# Altium footprint library PCB1_1.PcbLib: 23 footprints (part 1 of 2)
Each footprint in its own frame and in the unit in brackets; x right, y up, seen from the top. Pads: shape width x height; smd on the part's side, far side on the other; paste and mask are expansions set on the pad; w line width, h text height; cw(c..) or ccw(c..) is an arc to the next point about the centre after c.
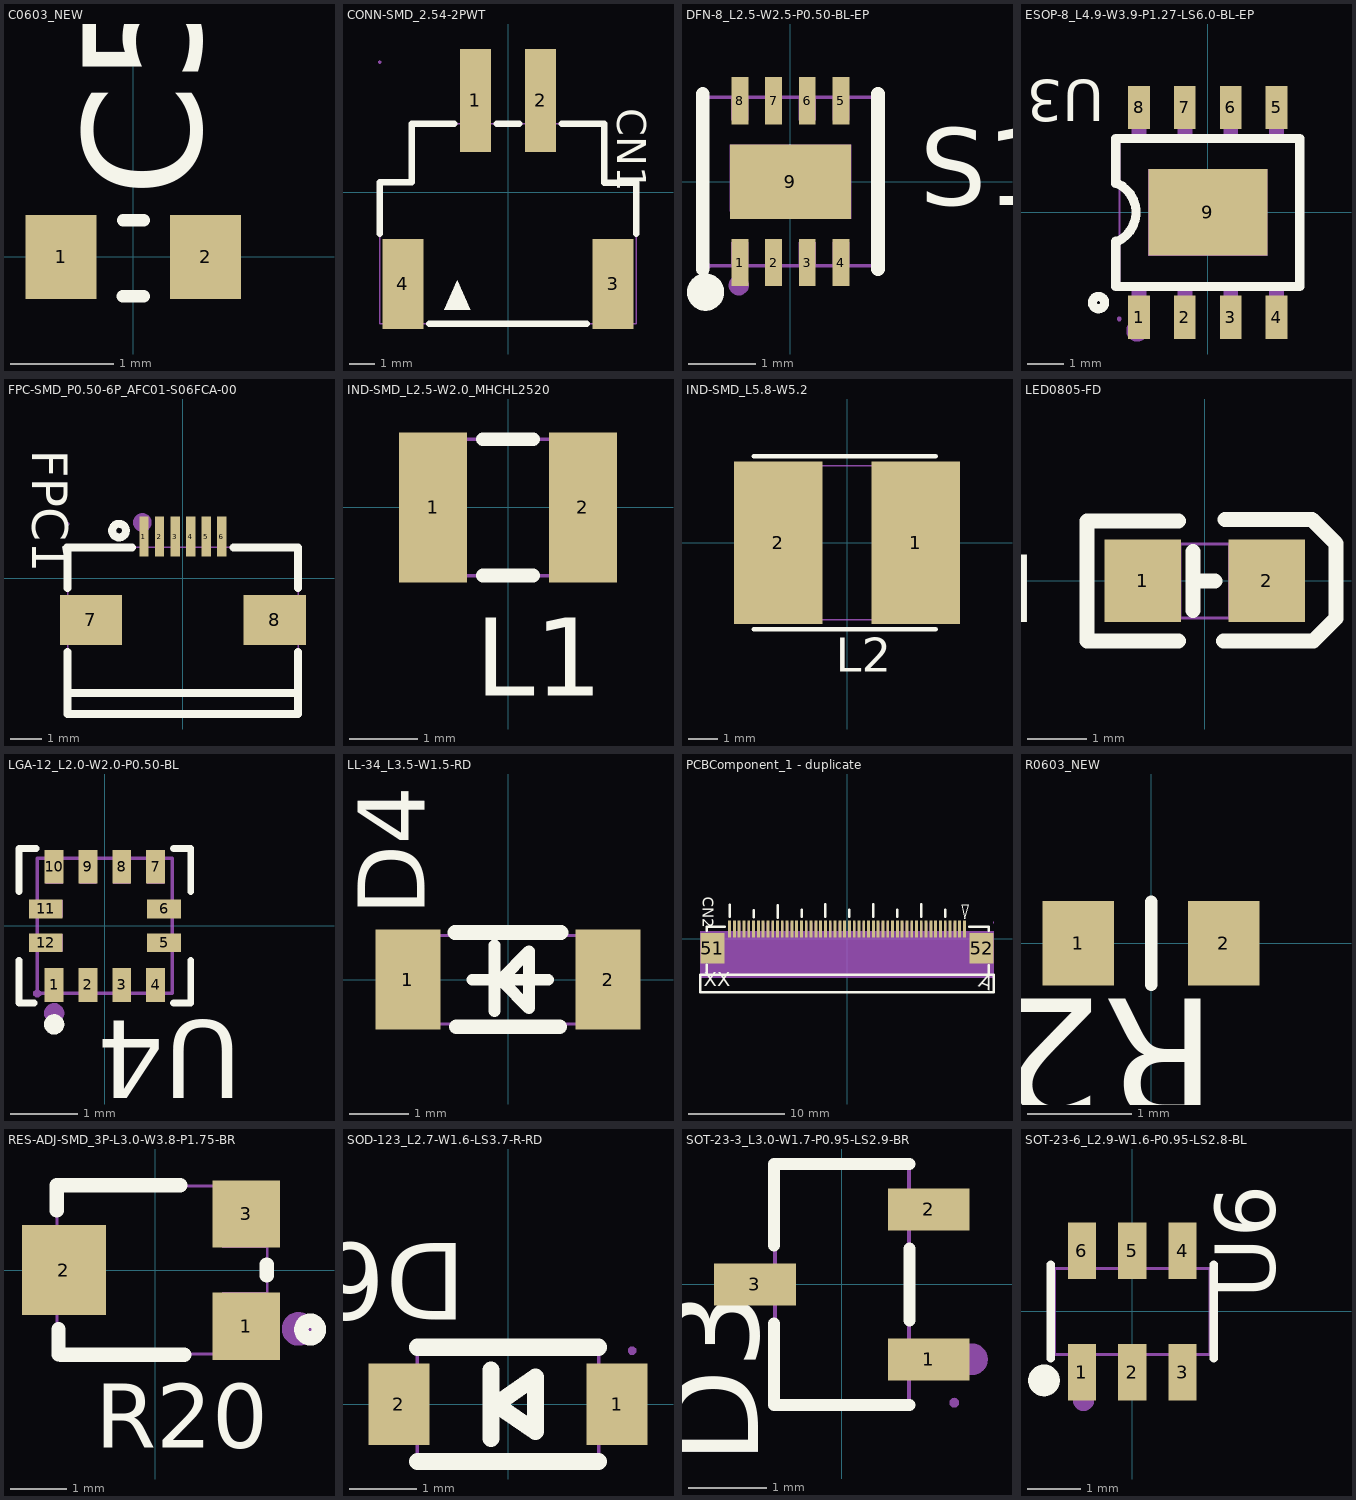
[diagram p0: the footprints below, top view; thin cyan lines are the x and y axes]

## C0603_NEW [mil]
pads (2):
  rect 27x32 smd paste+0 mask+4: 1(-27.5,0) 2(27.5,0)
Top Overlay:
  lines w4.72: -3.94,-15 3.94,-15 ; -3.94,13.94 3.94,13.94
  text "C5" at 25.67,22.74 h45

## CONN-SMD_2.54-2PWT [mm]
pads (4):
  rect 1.2x4 smd paste+0 mask+0.051: 1(-1.27,3.577) 2(1.27,3.577)
  rect 1.6x3.5 smd paste+0 mask+0.051: 3(4.1,-3.577) 4(-4.1,-3.577)
Top Overlay:
  region: -2.49,-4.577 -1.601,-4.577 -1.474,-4.577 -1.982,-3.434
  lines w0.254: -5.001,-1.619 -5.001,0.382 -3.749,0.382 -3.749,2.673 -2.101,2.673 ; -3.069,-5.127 3.069,-5.127 ; -0.439,2.673 0.439,2.673 ; 2.101,2.673 3.75,2.673 3.75,0.373 5,0.373 5,-1.619
  text "CN1" at 4.253,3.268 h1.14
Mechanical 6:
  circle w0.4: c-1.32,4.563 r0.2
Mechanical 15:
  region: -4.3,-2.723 -3.9,-2.723 -3.9,-5.123 -4.3,-5.123
  region: 3.9,-2.723 4.3,-2.723 4.3,-5.123 3.9,-5.123
  region: -1.59,5.077 -0.95,5.077 -0.95,1.648 -1.59,1.648
  region: 0.95,5.077 1.59,5.077 1.59,1.648 0.95,1.648
  region: -5,5.017 -4.976,5.018 -4.942,5.053 -4.942,5.101 -4.976,5.136 -5,5.137 -5.024,5.136 -5.058,5.101 -5.058,5.053 -5.024,5.018 -5,5.017
  lines w0.051: -5,-5.123 5,-5.123 5,0.377 3.75,0.377 3.75,2.677 -3.75,2.677 -3.75,0.377 -5,0.377 -5,-5.123

## DFN-8_L2.5-W2.5-P0.50-BL-EP [mm]
pads (9):
  rect 0.25x0.7 smd paste+0 mask+0.051: 1(-0.75,-1.2) 2(-0.25,-1.2) 3(0.25,-1.2) 4(0.75,-1.2) 5(0.75,1.2) 6(0.25,1.2) 7(-0.25,1.2) 8(-0.75,1.2)
  rect 1.8x1.1 smd paste+0 mask+0.051: 9(0,0)
Top Overlay:
  lines w0.203: -1.3,-1.3 -1.3,1.3 ; 1.3,-1.3 1.3,1.3
  lines w0.3: -1.26,-1.513 ccw(c-1.259,-1.64) -1.258,-1.513
  text "S1" at 1.923,-0.346 h1.14
Mechanical 6:
  circle w0.15: c-0.765,-1.537 r0.075
Mechanical 15:
  region: -0.875,1.263 -0.875,0.913 -0.625,0.913 -0.625,1.263
  region: -0.375,1.263 -0.375,0.913 -0.125,0.913 -0.125,1.263
  region: 0.125,1.263 0.125,0.913 0.375,0.913 0.375,1.263
  region: 0.625,1.263 0.625,0.913 0.875,0.913 0.875,1.263
  region: 0.625,-1.25 0.625,-0.9 0.875,-0.9 0.875,-1.25
  region: 0.125,-1.25 0.125,-0.9 0.375,-0.9 0.375,-1.25
  region: -0.375,-1.25 -0.375,-0.9 -0.125,-0.9 -0.125,-1.25
  region: -0.875,-1.25 -0.875,-0.9 -0.625,-0.9 -0.625,-1.25
  region: -0.9,-0.44 -0.9,0.55 0.9,0.55 0.9,-0.55 -0.79,-0.55
  region: -1.19,-1.25 -1.191,-1.226 -1.226,-1.192 -1.274,-1.192 -1.309,-1.226 -1.31,-1.25 -1.309,-1.274 -1.274,-1.308 -1.226,-1.308 -1.191,-1.274 -1.19,-1.25
  lines w0.051: -1.25,-1.25 -1.25,1.25 1.25,1.25 1.25,-1.25 -1.25,-1.25

## ESOP-8_L4.9-W3.9-P1.27-LS6.0-BL-EP [mm]
pads (9):
  rect 0.6x1.2 smd paste+0 mask+0.051: 1(-1.905,-2.908) 2(-0.635,-2.908) 3(0.635,-2.908) 4(1.905,-2.908) 5(1.905,2.908) 6(0.635,2.908) 7(-0.635,2.908) 8(-1.905,2.908)
  rect 3.3x2.4 smd paste+0 mask+0.051: 9(0,0)
Top Overlay:
  circle w0.254: c-3.03,-2.5 r0.17
  lines w0.254: -2.55,-0.8 -2.55,-2.05 2.55,-2.05 2.55,2.05 -2.55,2.05 -2.55,0.8 ; -2.5,-0.8 ccw(c-2.875,0) -2.5,0.8
  text "U3" at -2.863,3.663 h1.14
Mechanical 6:
  circle w0.3: c-1.96,-3.28 r0.15
Mechanical 15:
  region: 1.65,-1.2 -1.65,-1.2 -1.65,1.2 1.65,1.2
  region: 1.705,-2.95 1.705,-2.3 2.105,-2.3 2.105,-2.95
  region: 1.705,-2.31 1.705,-1.94 2.105,-1.94 2.105,-2.31
  region: 0.435,-2.95 0.435,-2.3 0.835,-2.3 0.835,-2.95
  region: 0.435,-2.31 0.435,-1.94 0.835,-1.94 0.835,-2.31
  region: -0.835,-2.95 -0.835,-2.3 -0.435,-2.3 -0.435,-2.95
  region: -0.835,-2.31 -0.835,-1.94 -0.435,-1.94 -0.435,-2.31
  region: -2.105,-2.95 -2.105,-2.3 -1.705,-2.3 -1.705,-2.95
  region: -2.105,-2.31 -2.105,-1.94 -1.705,-1.94 -1.705,-2.31
  region: 1.705,2.3 1.705,2.95 2.105,2.95 2.105,2.3
  region: 1.705,1.94 1.705,2.31 2.105,2.31 2.105,1.94
  region: 0.435,2.3 0.435,2.95 0.835,2.95 0.835,2.3
  region: 0.435,1.94 0.435,2.31 0.835,2.31 0.835,1.94
  region: -0.835,2.3 -0.835,2.95 -0.435,2.95 -0.435,2.3
  region: -0.835,1.94 -0.835,2.31 -0.435,2.31 -0.435,1.94
  region: -2.105,2.3 -2.105,2.95 -1.705,2.95 -1.705,2.3
  region: -2.105,1.94 -2.105,2.31 -1.705,2.31 -1.705,1.94
  region: -2.514,-2.95 -2.514,-2.975 -2.479,-3.01 -2.429,-3.01 -2.394,-2.975 -2.394,-2.95 -2.394,-2.925 -2.429,-2.89 -2.479,-2.89 -2.514,-2.925 -2.514,-2.95
  lines w0.051: -2.45,-1.95 -2.45,1.95 2.45,1.95 2.45,-1.95 -2.45,-1.95

## FPC-SMD_P0.50-6P_AFC01-S06FCA-00 [mm]
pads (8):
  rect 0.3x1.3 smd paste+0 mask+0.051: 1(-1.248,1.339) 2(-0.748,1.339) 3(-0.248,1.339) 4(0.252,1.339) 5(0.752,1.339) 6(1.252,1.339)
  rect 2x1.6 smd paste+0 mask+0.051: 7(-2.95,-1.339) 8(2.95,-1.339)
Top Overlay:
  circle w0.254: c-2.05,1.53 r0.22
  lines w0.254: -3.72,0.99 -1.629,0.99 ; -3.7,-3.682 3.7,-3.682 ; -3.7,-2.37 -3.7,-4.36 3.7,-4.36 3.7,-2.37 ; -3.7,-0.308 -3.7,0.99 ; 1.633,0.99 3.7,0.99 3.7,-0.308
  text "FPC1" at -4.839,4.131 h1.14
Mechanical 6:
  circle w0.3: c-1.3,1.79 r0.15
Mechanical 15:
  region: -3.7,1.679 -3.676,1.68 -3.642,1.715 -3.642,1.764 -3.676,1.799 -3.7,1.799 -3.725,1.798 -3.759,1.764 -3.759,1.715 -3.724,1.68 -3.7,1.679
  region: 1.352,0.939 1.152,0.939 1.152,1.739 1.352,1.739
  region: 0.852,0.939 0.652,0.939 0.652,1.739 0.852,1.739
  region: 0.352,0.939 0.152,0.939 0.152,1.739 0.352,1.739
  region: -0.148,0.939 -0.348,0.939 -0.348,1.739 -0.148,1.739
  region: -0.648,0.939 -0.848,0.939 -0.848,1.739 -0.648,1.739
  region: -1.148,0.939 -1.348,0.939 -1.348,1.739 -1.148,1.739
  region: 3.65,-0.791 3.65,-1.791 2.25,-1.791 2.25,-0.791
  region: -2.25,-0.791 -2.25,-1.791 -3.65,-1.791 -3.65,-0.791
  lines w0.051: -3.7,-4.361 -3.7,0.989 3.7,0.989 3.7,-4.361 -3.7,-4.361

## IND-SMD_L2.5-W2.0_MHCHL2520 [mm]
pads (2):
  rect 1x2.2 smd paste+0 mask+0.051: 1(-1.1,0) 2(1.1,0)
Top Overlay:
  lines w0.2: -0.369,-1 0.369,-1 ; -0.369,1 0.369,1
  text "L1" at -0.479,-2.762 h1.14
Mechanical 15:
  region: 1.25,1 1.25,-1 0.65,-1 0.65,1
  region: -0.65,1 -0.65,-1 -1.25,-1 -1.25,1
  region: -1.19,-1 -1.191,-0.976 -1.225,-0.942 -1.274,-0.942 -1.309,-0.976 -1.31,-1 -1.309,-1.024 -1.274,-1.058 -1.225,-1.058 -1.191,-1.024 -1.19,-1
  lines w0.051: -1.25,-1 1.25,-1 1.25,1 -1.25,1 -1.25,-1

## IND-SMD_L5.8-W5.2 [mm]
pads (2):
  rect 3x5.5 smd paste-100 mask+0.05: 1(2.325,0) 2(-2.325,0)
Top Overlay:
  lines w0.152: -3.15,-2.921 3.002,-2.921 ; -3.15,2.921 3.002,2.921
  text "L2" at -0.376,-4.359 h1.14
Top Paste:
  region: 2.998,2.6 2.998,-2.6 0.798,-2.6 0.798,2.6
  region: -2.947,-2.6 -2.947,2.6 -0.747,2.6 -0.747,-2.6
Mechanical 15:
  region: -0.875,-2.6 -1.475,-2.6 -1.975,-2.2 -2.375,-1.7 -2.775,-0.9 -2.875,0 -2.775,0.9 -2.375,1.7 -2.075,2.1 -1.475,2.6 -0.875,2.6
  region: 0.925,2.6 1.525,2.6 2.025,2.2 2.425,1.7 2.825,0.9 2.925,0 2.825,-0.9 2.425,-1.7 2.125,-2.1 1.525,-2.6 0.925,-2.6
  region: 2.985,-2.6 2.985,-2.576 2.95,-2.541 2.901,-2.541 2.866,-2.576 2.865,-2.6 2.866,-2.625 2.901,-2.659 2.95,-2.659 2.985,-2.624 2.985,-2.6
  lines w0.051: -2.875,0 -2.775,0.9 -2.375,1.7 -2.075,2.1 -1.475,2.6 1.525,2.6 2.025,2.2 2.425,1.7 2.825,0.9 2.925,0 2.825,-0.9 2.425,-1.7 2.025,-2.2 1.525,-2.6 -1.475,-2.6 -1.975,-2.2 -2.375,-1.7 -2.775,-0.9 -2.875,0

## LED0805-FD [mm]
pads (2):
  rect 1.3x1.4 smd paste+0 mask+0.051: 1(-1.05,0) 2(1.05,0)
Top Overlay:
  lines w0.254: -0.443,-1.015 -1.993,-1.015 -1.993,1.017 -0.443,1.017 ; -0.2,-0.5 -0.2,0.5 ; -0.1,0 0.169,0 ; 0.319,-1.015 1.843,-1.015 2.224,-0.634 2.224,0.636 1.817,1.043 0.344,1.043
  text "LED2" at -2.861,0.446 h1.14
Mechanical 6:
  region: 0.452,-0.17 0.452,0.13 1.652,0.13 1.652,-0.17
  region: -0.88,-0.599 -1.18,-0.599 -1.18,0.601 -0.88,0.601
  region: -1.649,-0.17 -1.649,0.13 -0.449,0.13 -0.449,-0.17
Mechanical 15:
  region: -1,0.625 -0.4,0.625 -0.4,-0.625 -1,-0.625
  region: 0.4,0.625 1,0.625 1,-0.625 0.4,-0.625
  region: -1.06,-0.625 -1.06,-0.65 -1.025,-0.684 -0.975,-0.684 -0.94,-0.65 -0.94,-0.625 -0.94,-0.6 -0.975,-0.566 -1.025,-0.566 -1.06,-0.6 -1.06,-0.625
  lines w0.051: -1,-0.625 1,-0.625 1,0.625 -1,0.625 -1,-0.625

## LGA-12_L2.0-W2.0-P0.50-BL [mm]
pads (12):
  rect 0.28x0.5 smd paste+0 mask+0.051: 1(-0.75,-0.875) 2(-0.25,-0.875) 3(0.25,-0.875) 4(0.75,-0.875) 7(0.75,0.875) 8(0.25,0.875) 9(-0.25,0.875) 10(-0.75,0.875)
  rect 0.5x0.28 smd paste+0 mask+0.051: 5(0.875,-0.25) 6(0.875,0.25) 11(-0.875,0.25) 12(-0.875,-0.25)
Top Overlay:
  circle w0.15: c-0.75,-1.457 r0.075
  lines w0.1: -1.27,-0.508 -1.27,-1.143 -1.044,-1.143 ; -1.27,0.508 -1.27,1.143 -1.016,1.143 ; 1.016,-1.143 1.27,-1.143 1.27,-0.508 ; 1.016,1.143 1.27,1.143 1.27,0.508
  text "U4" at 2.025,-1.407 h1.14
Mechanical 6:
  circle w0.15: c-0.75,-1.293 r0.075
Mechanical 15:
  region: -0.625,-0.125 -0.625,-0.375 -0.9,-0.375 -0.9,-0.125
  region: -0.625,0.375 -0.625,0.125 -0.9,0.125 -0.9,0.375
  region: -0.625,0.625 -0.875,0.625 -0.875,0.9 -0.625,0.9
  region: -0.125,0.625 -0.375,0.625 -0.375,0.9 -0.125,0.9
  region: 0.375,0.625 0.125,0.625 0.125,0.9 0.375,0.9
  region: 0.875,0.625 0.625,0.625 0.625,0.9 0.875,0.9
  region: 0.625,0.125 0.625,0.375 0.9,0.375 0.9,0.125
  region: 0.625,-0.375 0.625,-0.125 0.9,-0.125 0.9,-0.375
  region: 0.625,-0.625 0.875,-0.625 0.875,-0.9 0.625,-0.9
  region: 0.125,-0.625 0.375,-0.625 0.375,-0.9 0.125,-0.9
  region: -0.375,-0.625 -0.125,-0.625 -0.125,-0.9 -0.375,-0.9
  region: -0.875,-0.625 -0.625,-0.625 -0.625,-0.9 -0.875,-0.9
  region: -1.06,-1 -1.059,-1.024 -1.024,-1.058 -0.976,-1.058 -0.941,-1.024 -0.94,-1 -0.941,-0.976 -0.976,-0.942 -1.024,-0.942 -1.059,-0.976 -1.06,-1
  lines w0.051: -1,-1 1,-1 1,1 -1,1 -1,-1

## LL-34_L3.5-W1.5-RD [mm]
pads (2):
  rect 1.1x1.7 smd paste+0 mask+0.051: 1(-1.7,0) 2(1.7,0)
Top Overlay:
  lines w0.2: -0.61,0 0.686,0 ; -0.229,-0.533 -0.229,0.584 ; -0.127,0 0.356,0.483 0.356,-0.483 -0.102,-0.025
  lines w0.254: -0.9,0.8 0.9,0.8 ; -0.878,-0.8 0.878,-0.8
  text "D4" at -1.415,1.09 h1.14
Mechanical 6:
  region: -1.365,-0.096 -2.026,-0.096 -2.026,0.082 -1.365,0.082
  region: 2.035,-0.096 1.374,-0.096 1.374,0.082 2.035,0.082
  region: 1.604,-0.335 1.604,0.326 1.782,0.326 1.782,-0.335
Mechanical 15:
  region: -1.346,-0.75 -1.746,-0.75 -1.746,0.75 -1.346,0.75
  region: 1.754,-0.75 1.354,-0.75 1.354,0.75 1.754,0.75
  region: -1.686,-0.75 -1.687,-0.726 -1.722,-0.692 -1.771,-0.692 -1.805,-0.726 -1.806,-0.75 -1.805,-0.774 -1.77,-0.808 -1.722,-0.808 -1.687,-0.774 -1.686,-0.75
  lines w0.051: -1.746,-0.75 1.754,-0.75 1.754,0.75 -1.746,0.75 -1.746,-0.75

## PCBComponent_1 - duplicate [mm]
pads (52):
  rect 0.3x1.8 smd paste+0 mask+0.051: 1(12.25,1) 2(11.75,1) 3(11.25,1) 4(10.75,1) 5(10.25,1) 6(9.75,1) 7(9.25,1) 8(8.75,1) 9(8.25,1) 10(7.75,1) 11(7.25,1) 12(6.75,1) 13(6.25,1) 14(5.75,1) 15(5.25,1) 16(4.75,1) 17(4.25,1) 18(3.75,1) 19(3.25,1) 20(2.75,1) 21(2.25,1) 22(1.75,1) 23(1.25,1) 24(0.75,1) 25(0.25,1) 26(-0.25,1) 27(-0.75,1) 28(-1.25,1) 29(-1.75,1) 30(-2.25,1) 31(-2.75,1) 32(-3.25,1) 33(-3.75,1) 34(-4.25,1) 35(-4.75,1) 36(-5.25,1) 37(-5.75,1) 38(-6.25,1) 39(-6.75,1) 40(-7.25,1) 41(-7.75,1) 42(-8.25,1) 43(-8.75,1) 44(-9.25,1) 45(-9.75,1) 46(-10.25,1) 47(-10.75,1) 48(-11.25,1) 49(-11.75,1) 50(-12.25,1)
  rect 2.5x3.2 smd paste+0 mask+0.051: 51(-14.05,-1) 52(14.05,-1)
Top Overlay:
  lines w0.1: 11.953,3.525 12.283,2.077 12.715,3.525 11.953,3.525
  lines w0.254: -14.63,-3.745 -14.63,-2.745 ; -14.63,0.805 -14.63,1.255 -12.735,1.255 ; -12.24,2.26 -12.24,3.53 ; -9.74,2.22 -9.74,2.95 ; -7.24,2.19 -7.24,3.46 ; -4.741,2.301 -4.741,3.031 ; -2.247,2.301 -2.247,3.571 ; 0.253,2.301 0.253,3.031 ; 2.753,2.301 2.753,3.571 ; 5.253,2.301 5.253,3.031 ; 7.753,2.301 7.753,3.571 ; 10.253,2.301 10.253,3.031 ; 12.75,1.25 14.81,1.25 14.81,0.8 ; 14.81,-3.75 14.81,-2.75 ; -15.3,-5.6 15.3,-5.6 15.3,-3.75 -15.3,-3.75 -15.3,-5.6
  text "A" at 13.656,-4.948 h1.45
  text "XX" at -14.96,-4.972 h1.47
  text "CN2" at -15.034,4.377 h1.14
Mechanical 1:
  drawing of 54 lines, arcs and shapes, not listed

## R0603_NEW [mil]
pads (2):
  rect 27x32 smd paste+0 mask+4: 1(-27.49,0) 2(27.51,0)
Top Overlay:
  lines w4.72: 0,-15.75 0,15.75
  text "R2" at 24.91,-20.88 h45

## RES-ADJ-SMD_3P-L3.0-W3.8-P1.75-BR [mm]
pads (3):
  rect 1.2x1.2 smd paste+0 mask+0.051: 1(1.625,-1) 3(1.625,1)
  rect 1.5x1.6 smd paste+0 mask+0.051: 2(-1.625,0)
Top Overlay:
  circle w0.254: c2.765,-1.06 r0.158
  lines w0.254: -1.75,1.06 -1.75,1.51 0.45,1.51 ; -1.72,-1.505 -1.72,-1.055 ; -1.68,-1.51 0.52,-1.51 ; 1.99,-0.1 1.99,0.1
  text "R20" at -1.066,-3.169 h1.14
Mechanical 6:
  circle w0.3: c2.56,-1.05 r0.15
Mechanical 15:
  region: -1.05,0.75 -1.05,-0.75 -1.8,-0.75 -1.8,0.75
  region: 2,1.35 2,0.4 1.2,0.4 1.2,1.35
  region: 2,-0.4 2,-1.35 1.2,-1.35 1.2,-0.4
  region: 2.06,-1.5 2.06,-1.475 2.025,-1.44 1.975,-1.44 1.94,-1.475 1.94,-1.5 1.94,-1.525 1.975,-1.56 2.025,-1.56 2.06,-1.525 2.06,-1.5
  lines w0.051: -1.75,-1.5 -1.75,1.5 2,1.5 2,-1.5 -1.75,-1.5

## SOD-123_L2.7-W1.6-LS3.7-R-RD [mil]
pads (2):
  rect 35.8x48 smd paste+0 mask+2: 1(64,0) 2(-64,0)
Top Overlay:
  lines w10: -53,-33.47 53,-33.47 ; -53,33.47 53,33.47 ; -10,-20 -10,20 ; -7,0 16,-16 16,16 -7,0
  text "D6" at -24.38,94.43 h45
Mechanical 6:
  region: -80.38,4.87 -47.23,4.87 -47.23,-3.27 -80.4,-3.27
  region: 60.02,-13.32 60.02,19.82 68.17,19.82 68.17,-13.35
  region: 46.85,8.35 80,8.35 80,0.2 46.82,0.2
Mechanical 15:
  region: 59.05,-10.83 59.05,10.83 72.83,10.83 72.83,-10.83
  region: 52.76,-10.83 52.76,10.83 59.45,10.83 59.45,-10.83
  region: -72.83,-10.83 -72.83,10.83 -59.05,10.83 -59.05,-10.83
  region: -59.45,-10.83 -59.45,10.83 -52.76,10.83 -52.76,-10.83
  region: 70.47,31.5 70.47,30.52 71.86,29.13 73.82,29.13 75.2,30.52 75.2,31.49 75.2,32.47 73.82,33.86 71.86,33.86 70.47,32.48 70.47,31.5
  lines w2: -53.15,-31.5 53.15,-31.5 53.15,31.5 -53.15,31.5 -53.15,-31.5

## SOT-23-3_L3.0-W1.7-P0.95-LS2.9-BR [mm]
pads (3):
  rect 1.037x0.532 smd paste+0 mask+0.051: 1(1.101,-0.95) 2(1.101,0.95) 3(-1.101,0)
Top Overlay:
  lines w0.152: -0.859,-0.495 -0.859,-1.526 0.859,-1.526 ; -0.859,0.495 -0.859,1.526 0.859,1.526 ; 0.859,-0.455 0.859,0.455
  text "D3" at -1.057,-2.277 h1.14
Mechanical 6:
  circle w0.2: c1.65,-0.95 r0.1
Mechanical 15:
  region: 1,-1.137 1,-0.762 1.425,-0.762 1.425,-1.137
  region: 0.815,-1.137 0.815,-0.762 1.01,-0.762 1.01,-1.137
  region: 1,0.762 1,1.137 1.425,1.137 1.425,0.762
  region: 0.815,0.762 0.815,1.137 1.01,1.137 1.01,0.762
  region: -1.425,-0.188 -1.425,0.188 -1,0.188 -1,-0.188
  region: -1.01,-0.188 -1.01,0.188 -0.815,0.188 -0.815,-0.188
  region: 1.425,-1.44 1.401,-1.441 1.367,-1.476 1.367,-1.524 1.401,-1.559 1.425,-1.56 1.449,-1.559 1.483,-1.524 1.483,-1.476 1.449,-1.441 1.425,-1.44
  lines w0.051: -0.85,-1.5 -0.85,1.5 0.85,1.5 0.85,-1.5 -0.85,-1.5

## SOT-23-6_L2.9-W1.6-P0.95-LS2.8-BL [mm]
pads (6):
  rect 0.532x1.072 smd paste+0 mask+0.051: 1(-0.95,-1.149) 2(0,-1.149) 3(0.95,-1.149) 4(0.95,1.149) 5(0,1.149) 6(-0.95,1.149)
Top Overlay:
  circle w0.3: c-1.668,-1.301 r0.15
  lines w0.152: -1.539,-0.889 -1.539,0.889 ; 1.539,-0.889 1.539,0.889
  text "U6" at 2.705,0.245 h1.14
Mechanical 6:
  circle w0.2: c-0.92,-1.68 r0.1
Mechanical 15:
  region: -1.165,0.935 -0.735,0.935 -0.735,0.803 -1.165,0.803
  region: -1.165,0.925 -0.735,0.925 -0.735,1.4 -1.165,1.4
  region: -0.215,0.935 0.215,0.935 0.215,0.803 -0.215,0.803
  region: -0.215,0.925 0.215,0.925 0.215,1.4 -0.215,1.4
  region: 0.735,0.935 1.165,0.935 1.165,0.803 0.735,0.803
  region: 0.735,0.925 1.165,0.925 1.165,1.4 0.735,1.4
  region: 0.735,-0.803 1.165,-0.803 1.165,-0.935 0.735,-0.935
  region: 0.735,-0.925 1.165,-0.925 1.165,-1.4 0.735,-1.4
  region: -0.215,-0.803 0.215,-0.803 0.215,-0.935 -0.215,-0.935
  region: -0.215,-0.925 0.215,-0.925 0.215,-1.4 -0.215,-1.4
  region: -1.165,-0.803 -0.735,-0.803 -0.735,-0.935 -1.165,-0.935
  region: -1.165,-0.925 -0.735,-0.925 -0.735,-1.4 -1.165,-1.4
  region: -1.463,-1.34 -1.487,-1.341 -1.521,-1.376 -1.521,-1.424 -1.487,-1.459 -1.463,-1.46 -1.439,-1.459 -1.405,-1.424 -1.405,-1.376 -1.439,-1.341 -1.463,-1.34
  lines w0.051: -1.463,-0.813 -1.463,0.813 1.463,0.813 1.463,-0.813 -1.463,-0.813